# EAGLE library part GENERIC_TEENSY_3.0_DIL (library Teensy_3_and_LC_Series_Boards_v1.4)
TEENSY 3.0 in a classic breadboard layout - pins between the two outer rows.
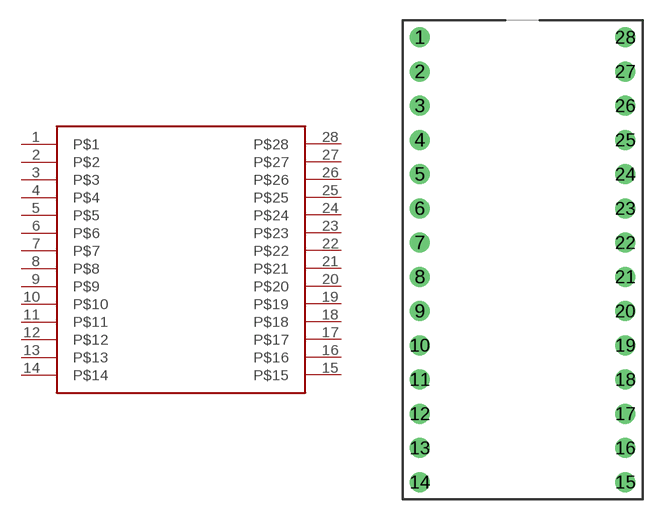
[diagram p22: symbol with the pads of GENERIC_TEENSY_3.0-3.2&LC_DIL; footprint GENERIC_TEENSY_3.0-3.2&LC_DIL]

Designator prefix -

## GENERIC_TEENSY_3.0_DIL  [GENERIC_TEENSY_3.0-3.2&LC_DIL]
1  P$1
2  P$2
3  P$3
4  P$4
5  P$5
6  P$6
7  P$7
8  P$8
9  P$9
10  P$10
11  P$11
12  P$12
13  P$13
14  P$14
15  P$15
16  P$16
17  P$17
18  P$18
19  P$19
20  P$20
21  P$21
22  P$22
23  P$23
24  P$24
25  P$25
26  P$26
27  P$27
28  P$28

## Footprint GENERIC_TEENSY_3.0-3.2&LC_DIL (pad centres in mm)
drill 0.965: 1 -7.62,16.51; 2 -7.62,13.97; 3 -7.62,11.43; 4 -7.62,8.89; 5 -7.62,6.35; 6 -7.62,3.81; 7 -7.62,1.27; 8 -7.62,-1.27; 9 -7.62,-3.81; 10 -7.62,-6.35; 11 -7.62,-8.89; 12 -7.62,-11.43; 13 -7.62,-13.97; 14 -7.62,-16.51; 15 7.62,-16.51; 16 7.62,-13.97; 17 7.62,-11.43; 18 7.62,-8.89; 19 7.62,-6.35; 20 7.62,-3.81; 21 7.62,-1.27; 22 7.62,1.27; 23 7.62,3.81; 24 7.62,6.35; 25 7.62,8.89; 26 7.62,11.43; 27 7.62,13.97; 28 7.62,16.51